# EAGLE library part PIC32MX795F512H-80I/PT (library pfo)
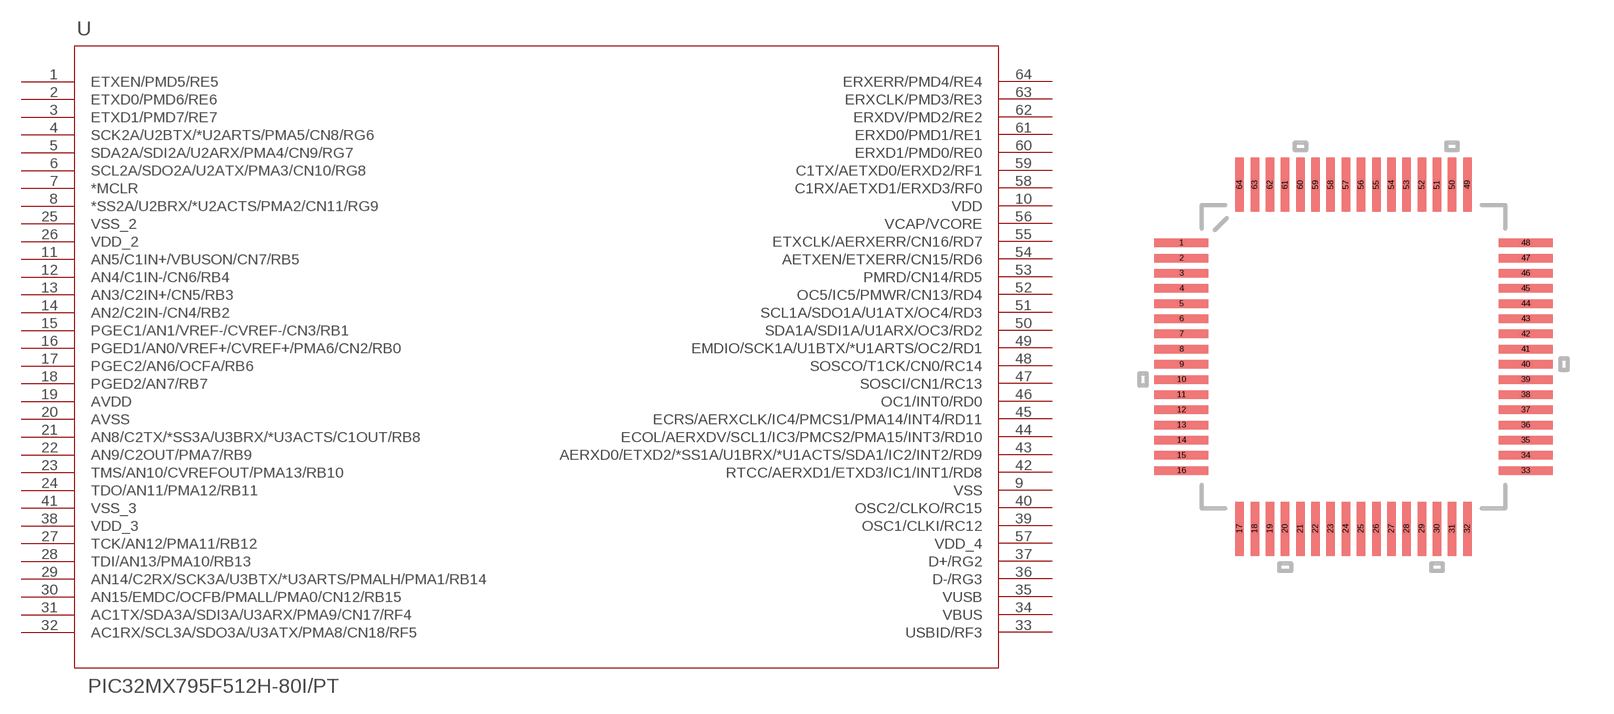
[diagram p0: symbol with the pads of TQFP64_10X10MC-M; footprint TQFP64_10X10MC-M]

Designator prefix U

## PIC32MX795F512H-80I/PT  [TQFP64_10X10MC-M]
1  ETXEN/PMD5/RE5
2  ETXD0/PMD6/RE6
3  ETXD1/PMD7/RE7
4  SCK2A/U2BTX/*U2ARTS/PMA5/CN8/RG6
5  SDA2A/SDI2A/U2ARX/PMA4/CN9/RG7
6  SCL2A/SDO2A/U2ATX/PMA3/CN10/RG8
7  *MCLR  in
8  *SS2A/U2BRX/*U2ACTS/PMA2/CN11/RG9
9  VSS  pwr
10  VDD  pwr
11  AN5/C1IN+/VBUSON/CN7/RB5
12  AN4/C1IN-/CN6/RB4
13  AN3/C2IN+/CN5/RB3
14  AN2/C2IN-/CN4/RB2
15  PGEC1/AN1/VREF-/CVREF-/CN3/RB1
16  PGED1/AN0/VREF+/CVREF+/PMA6/CN2/RB0
17  PGEC2/AN6/OCFA/RB6
18  PGED2/AN7/RB7
19  AVDD  pwr
20  AVSS  pwr
21  AN8/C2TX/*SS3A/U3BRX/*U3ACTS/C1OUT/RB8
22  AN9/C2OUT/PMA7/RB9
23  TMS/AN10/CVREFOUT/PMA13/RB10
24  TDO/AN11/PMA12/RB11
25  VSS_2  pwr
26  VDD_2  pwr
27  TCK/AN12/PMA11/RB12
28  TDI/AN13/PMA10/RB13
29  AN14/C2RX/SCK3A/U3BTX/*U3ARTS/PMALH/PMA1/RB14
30  AN15/EMDC/OCFB/PMALL/PMA0/CN12/RB15
31  AC1TX/SDA3A/SDI3A/U3ARX/PMA9/CN17/RF4
32  AC1RX/SCL3A/SDO3A/U3ATX/PMA8/CN18/RF5
33  USBID/RF3
34  VBUS  in
35  VUSB  pwr
36  D-/RG3
37  D+/RG2
38  VDD_3  pwr
39  OSC1/CLKI/RC12
40  OSC2/CLKO/RC15
41  VSS_3  pwr
42  RTCC/AERXD1/ETXD3/IC1/INT1/RD8
43  AERXD0/ETXD2/*SS1A/U1BRX/*U1ACTS/SDA1/IC2/INT2/RD9
44  ECOL/AERXDV/SCL1/IC3/PMCS2/PMA15/INT3/RD10
45  ECRS/AERXCLK/IC4/PMCS1/PMA14/INT4/RD11
46  OC1/INT0/RD0
47  SOSCI/CN1/RC13
48  SOSCO/T1CK/CN0/RC14
49  EMDIO/SCK1A/U1BTX/*U1ARTS/OC2/RD1
50  SDA1A/SDI1A/U1ARX/OC3/RD2
51  SCL1A/SDO1A/U1ATX/OC4/RD3
52  OC5/IC5/PMWR/CN13/RD4
53  PMRD/CN14/RD5
54  AETXEN/ETXERR/CN15/RD6
55  ETXCLK/AERXERR/CN16/RD7
56  VCAP/VCORE  pwr
57  VDD_4  pwr
58  C1RX/AETXD1/ERXD3/RF0
59  C1TX/AETXD0/ERXD2/RF1
60  ERXD1/PMD0/RE0
61  ERXD0/PMD1/RE1
62  ERXDV/PMD2/RE2
63  ERXCLK/PMD3/RE3
64  ERXERR/PMD4/RE4

## Footprint TQFP64_10X10MC-M (pad centres in mm)
smd 1.778 x 0.279: 1 -5.664,3.75; 2 -5.664,3.25; 3 -5.664,2.75; 4 -5.664,2.25; 5 -5.664,1.75; 6 -5.664,1.25; 7 -5.664,0.75; 8 -5.664,0.25; 9 -5.664,-0.25; 10 -5.664,-0.75; 11 -5.664,-1.25; 12 -5.664,-1.75; 13 -5.664,-2.25; 14 -5.664,-2.75; 15 -5.664,-3.25; 16 -5.664,-3.75; 33 5.664,-3.75; 34 5.664,-3.25; 35 5.664,-2.75; 36 5.664,-2.25; 37 5.664,-1.75; 38 5.664,-1.25; 39 5.664,-0.75; 40 5.664,-0.25; 41 5.664,0.25; 42 5.664,0.75; 43 5.664,1.25; 44 5.664,1.75; 45 5.664,2.25; 46 5.664,2.75; 47 5.664,3.25; 48 5.664,3.75
smd 0.279 x 1.778: 17 -3.75,-5.664; 18 -3.25,-5.664; 19 -2.75,-5.664; 20 -2.25,-5.664; 21 -1.75,-5.664; 22 -1.25,-5.664; 23 -0.75,-5.664; 24 -0.25,-5.664; 25 0.25,-5.664; 26 0.75,-5.664; 27 1.25,-5.664; 28 1.75,-5.664; 29 2.25,-5.664; 30 2.75,-5.664; 31 3.25,-5.664; 32 3.75,-5.664; 49 3.75,5.664; 50 3.25,5.664; 51 2.75,5.664; 52 2.25,5.664; 53 1.75,5.664; 54 1.25,5.664; 55 0.75,5.664; 56 0.25,5.664; 57 -0.25,5.664; 58 -0.75,5.664; 59 -1.25,5.664; 60 -1.75,5.664; 61 -2.25,5.664; 62 -2.75,5.664; 63 -3.25,5.664; 64 -3.75,5.664